# Altium footprint library RHDR3W76P0X254_1X3_762X254X826P.PcbLib: 1 footprints
Each footprint in its own frame and in the unit in brackets; x right, y up, seen from the top. Pads: shape width x height; smd on the part's side, far side on the other; paste and mask are expansions set on the pad; w line width, h text height; cw(c..) or ccw(c..) is an arc to the next point about the centre after c.
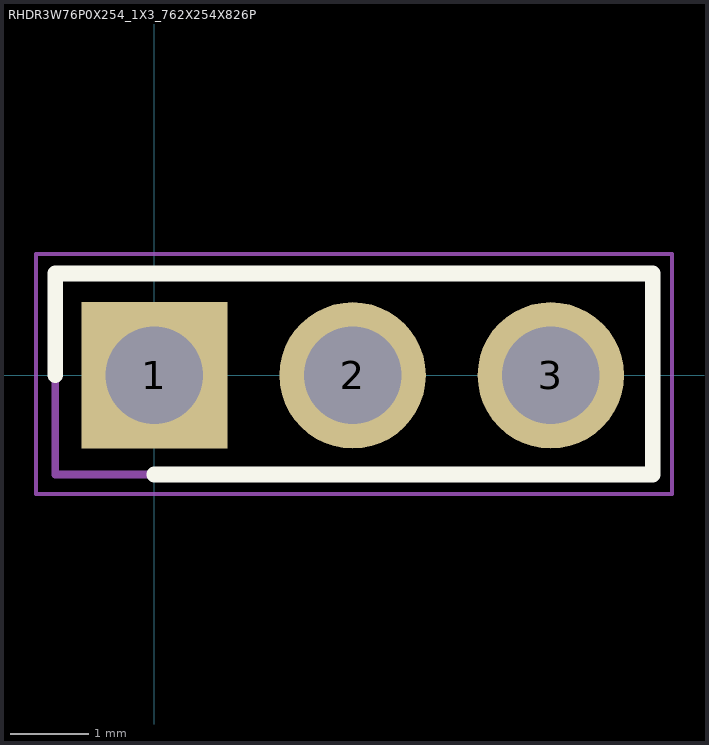
[diagram p0: the footprint, top view; thin cyan lines are the x and y axes]

## RHDR3W76P0X254_1X3_762X254X826P [mm]
pads (3):
  rect 1.875x1.875 / inner round 1.875 / far side rect 1.875x1.875 hole 1.25: 1(0,0)
  round 1.875 hole 1.25: 2(2.54,0) 3(5.08,0)
Top Overlay:
  lines w0.2: -1.27,0 -1.27,1.305 6.385,1.305 6.385,-1.27 0,-1.27
Mechanical 15:
  lines w0.1: -1.27,-1.27 -1.27,1.27 6.35,1.27 6.35,-1.27 -1.27,-1.27
Mechanical 20:
  lines w0.05: -1.52,-1.52 -1.52,1.555 6.635,1.555 6.635,-1.52 -1.52,-1.52
3D body "929850-01-03-RA.stp": height 5.8, standoff -4.65, extent -10,-3.376 10,3.376